# EAGLE library part TC78H620FNG (library tide_clock)
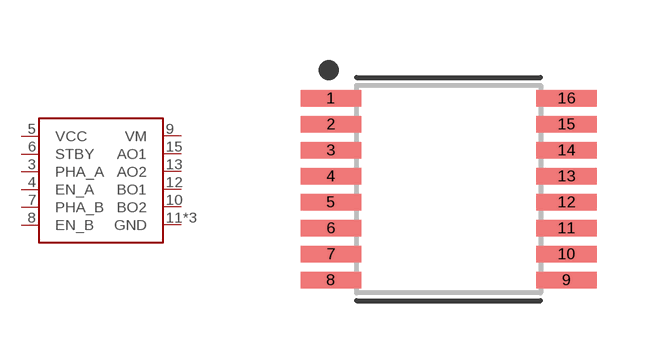
[diagram p7: symbol with the pads of SSOP16; footprint SSOP16]

Designator prefix U

## TC78H620FNG  [SSOP16]
3  PHA_A
4  EN_A
5  VCC
6  STBY
7  PHA_B
8  EN_B
9  VM
10  BO2
11  GND
12  BO1
13  AO2
14  GND
15  AO1
16  GND

## Footprint SSOP16 (pad centres in mm)
16-SOP, 0.65 mm pitch, 6.40 mm span, 5.00 X 4.40 X 1.60 mm body 16-pin SOP package with 0.65 mm pitch, 6.40 mm span with body size 5.00 X 4.40 X 1.60 mm
smd 1.515 x 0.409: 1 -2.948,2.275; 2 -2.948,1.625; 3 -2.948,0.975; 4 -2.948,0.325; 5 -2.948,-0.325; 6 -2.948,-0.975; 7 -2.948,-1.625; 8 -2.948,-2.275; 9 2.948,-2.275; 10 2.948,-1.625; 11 2.948,-0.975; 12 2.948,-0.325; 13 2.948,0.325; 14 2.948,0.975; 15 2.948,1.625; 16 2.948,2.275